# EAGLE library part TPS61222DCKR (library Trainii)
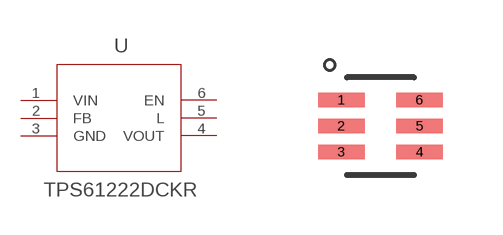
[diagram p2: symbol with the pads of DCK6; footprint DCK6]

Designator prefix U

## TPS61222DCKR (MANUFACTURER_PART_NUMBER: TPS61222DCKR; VENDOR: Texas Instruments)  [DCK6]
1  VIN  in
2  FB  in
3  GND  pwr
4  VOUT  out
5  L  in
6  EN  in

## Footprint DCK6 (pad centres in mm)
smd 1.168 x 0.356: 1 -0.978,0.65; 2 -0.978,0; 3 -0.978,-0.65; 4 0.978,-0.65; 5 0.978,0; 6 0.978,0.65